# EAGLE library part LTC6992CS6-1#TRMPBF (library ruark2)
Oscillator, Silicon IC 3.81Hz ~ 1MHz TSOT-23-6
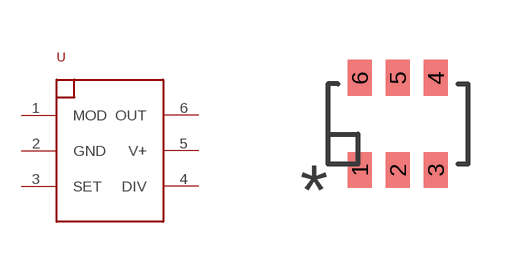
[diagram p52: symbol with the pads of SOT23-6; footprint SOT23-6]

Designator prefix U

## LTC6992CS6-1#TRMPBF (PARTNO: LTC6992CS6-1#TRMPBFCT-ND)  [SOT23-6]
1  MOD
2  GND
3  SET
4  DIV
5  V+
6  OUT

## Footprint SOT23-6 (pad centres in mm)
smd 0.6 x 0.9: 1 -0.95,-1.15; 2 0,-1.15; 3 0.95,-1.15; 4 0.95,1.15; 5 0,1.15; 6 -0.95,1.15